# EAGLE library part IRF7329 (library zz-m-pad-2.1)
International Rectifier's IRF7329 HEXFET® Power MOSFET Description: Features: Trench Technology Ultra Low On-Resistance Dual P-Channel MOSFET Low Profile (<1.8mm) Available in Tape & Reel Please send any comments to: messi@users.sourceforge.net
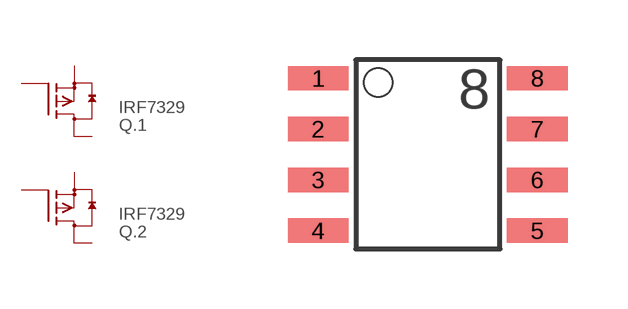
[diagram p80: symbol with the pads of SO-8; footprint SO-8]

Designator prefix Q; gates .1=IGFET-4-P-CH .2=IGFET-4-P-CH

## IRF7329  [SO-8]
1  .1:S  pas
2  .1:G  pas
3  .2:S  pas
4  .2:G  pas
5  .2:D  pas
6  .2:D  pas
7  .1:D  pas
8  .1:D  pas

## Footprint SO-8 (pad centres in mm)
small outline
smd 1.524 x 0.61: 1 -2.743,1.27; 2 -2.743,0; 3 -2.743,-1.27; 4 -2.743,-2.54; 5 2.743,-2.54; 6 2.743,-1.27; 7 2.743,0; 8 2.743,1.27